# Altium integrated library Sensor.IntLib: 1 symbol
Pins are listed as number, name and electrical type; pins without a type are passive.

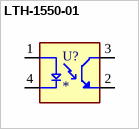
[diagram p0: symbol LTH-1550-01]

## LTH-1550-01
designator U?
Reflective Optical Sensor - 2-DIP (0.100, 2.54mm); MF: Lite-On Inc.; MP: LTH-1550-01; Package: DIP-2 Lite-On; Price: None; Check_prices: https://www.snapeda.com/parts/LTH-1550-01/Lite-On+Inc./view-part/?ref=eda; Value: *; SnapEDA_Link: https://www.snapeda.com/parts/LTH-1550-01/Lite-On+Inc./view-part/?ref=snap; Availability: In Stock; Purchase-URL: https://pricing.snapeda.com/search/part/LTH-1550-01/?ref=eda
footprint PHOTOINTERRUPTER_LTH-1550-01
pins: 1 A, 2 ET, 3 CT, 4 C